# Altium integrated library LT3652EMSE_PBF.IntLib: 1 symbol
Pins are listed as number, name and electrical type; pins without a type are passive.

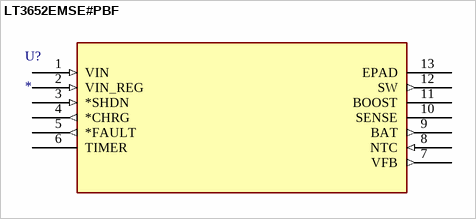
[diagram p0: symbol LT3652EMSE#PBF]

## LT3652EMSE#PBF
designator U?
Power Tracking 2A Battery Charger for Solar Power; MF: Analog Devices; MP: LT3652EMSE#PBF; Price: None; Value: *; Check_prices: https://www.snapeda.com/parts/LT3652EMSE%23PBF/Analog+Devices/view-part/?ref=eda; Purchase-URL: https://pricing.snapeda.com/search/part/LT3652EMSE#PBF/?ref=eda; Package: MSOP -12 Analog Devices; SnapEDA_Link: https://www.snapeda.com/parts/LT3652EMSE%23PBF/Analog+Devices/view-part/?ref=snap; Availability: In Stock
footprint MSOP-12_MSE
pins: 1 VIN (in), 2 VIN_REG (in), 3 *SHDN (in), 4 *CHRG (out), 5 *FAULT (out), 6 TIMER, 7 VFB (out), 8 NTC (in), 9 BAT (out), 10 SENSE, 11 BOOST, 12 SW (out), 13 EPAD